# Altium footprint library ICs.PcbLib: 72 footprints (part 5 of 5)
Each footprint in its own frame and in the unit in brackets; x right, y up, seen from the top. Pads: shape width x height; smd on the part's side, far side on the other; paste and mask are expansions set on the pad; w line width, h text height; cw(c..) or ccw(c..) is an arc to the next point about the centre after c.
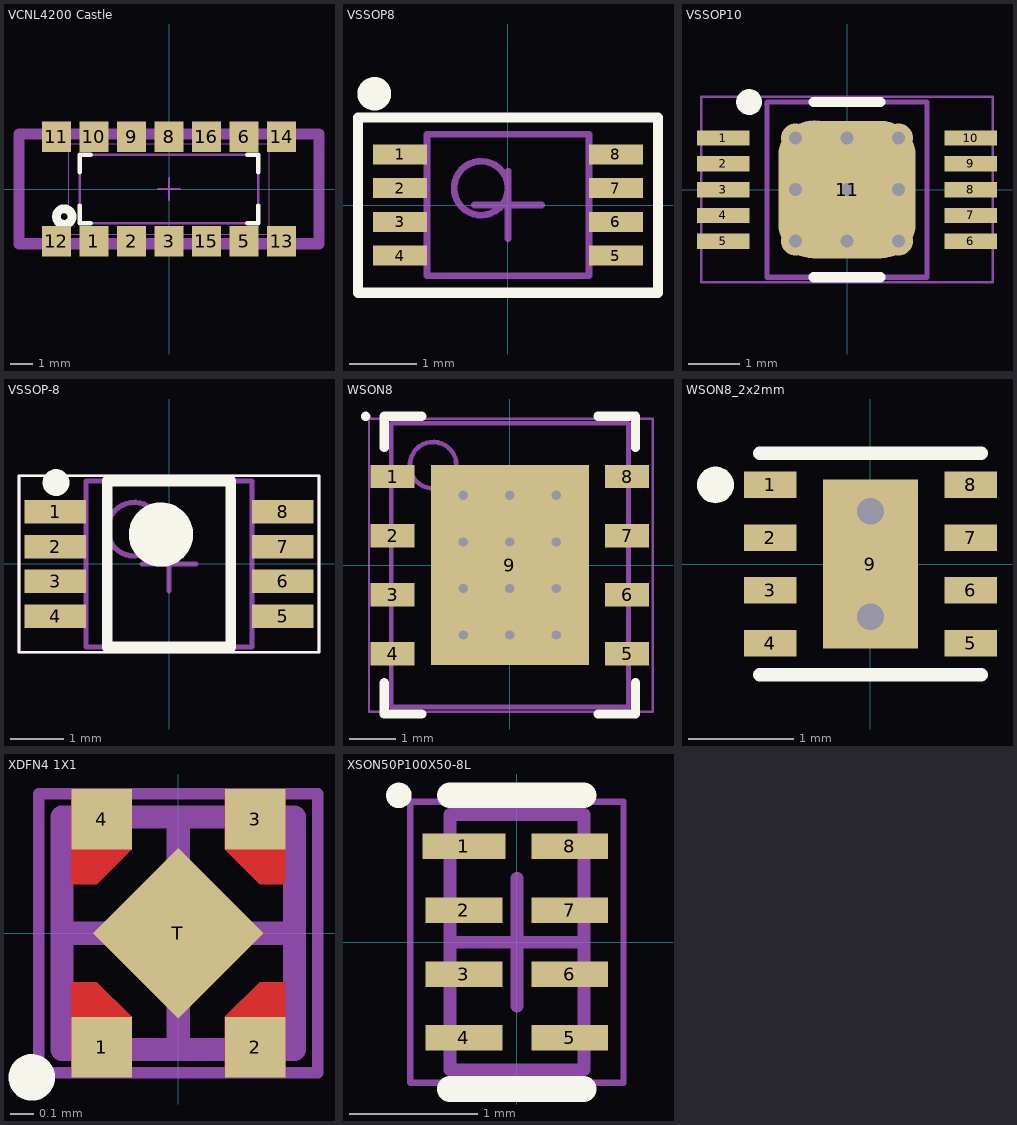
[diagram p4: the footprints below, top view; thin cyan lines are the x and y axes]

## VCNL4200 Castle [mm] "PQFN, 8-Leads, Body 8.00x3.00mm, Pitch 1.70mm/0.50mm, IPC Low Density"
height 1.9
pads (14):
  rect 1.3x1.362 smd: 1(-3.4,-2.368) 2(-1.7,-2.368) 3(0,-2.368) 5(3.4,-2.368) 6(3.4,2.368) 8(0,2.368) 9(-1.7,2.368) 10(-3.4,2.368) 11(-5.1,2.368) 12(-5.1,-2.368) 13(5.1,-2.368) 14(5.1,2.368) 15(1.7,-2.368) 16(1.7,2.368)
Top Overlay:
  circle w0.4: c-4.75,-1.25 r0.354
  lines w0.2: -4.05,-0.75 -4.05,-1.55 -3.55,-1.55 ; -4.05,0.75 -4.05,1.55 -3.55,1.55 ; 3.55,-1.55 4.05,-1.55 4.05,-0.75 ; 3.55,1.55 4.05,1.55 4.05,0.75
Assembly Top:
  lines w0.1: -4.05,-1.55 -4.05,1.55 4.05,1.55 4.05,-1.55 -4.05,-1.55
Courtyard Top:
  lines w0.05: -4.55,-2.05 -4.55,2.05 4.55,2.05 4.55,-2.05 -4.55,-2.05
  lines w0.1: -0.5,0 0.5,0 ; 0,-0.5 0,0.5
Board:
  lines w0.508: -6.8,-2.481 -6.8,2.499 6.8,2.499 6.8,-2.481 -6.8,-2.481
3D body "ProximityCastle.step": height 6.87, standoff -0.01, extent -6.8,-2.484 6.8,2.496

## VSSOP8 [mm] "0.5mm pitch"
height 1
pads (8):
  rect 0.8x0.296 smd: 1(-1.6,0.75) 2(-1.6,0.25) 3(-1.6,-0.25) 4(-1.6,-0.75) 5(1.6,-0.75) 6(1.6,-0.25) 7(1.6,0.25) 8(1.6,0.75)
Top Overlay:
  circle w0.25: c-1.983,1.651 r0.125
  lines w0.152: -2.225,-1.3 -2.225,1.3 2.225,1.3 2.225,-1.3 -2.225,-1.3
Mechanical 13:
  circle w0.1: c-0.4,0.25 r0.4
  lines w0.1: -1.2,-1.05 -1.2,1.05 1.2,1.05 1.2,-1.05 -1.2,-1.05
Mechanical 15:
  lines w0.05: -2.225,-1.3 -2.225,1.3 2.225,1.3 2.225,-1.3 -2.225,-1.3
  lines w0.1: -0.5,0 0.5,0 ; 0,-0.5 0,0.5
3D body "VSSOP8.step": height 1, standoff 0, extent -1.549,-1.05 1.549,1.05

## VSSOP10 [mm] "TSSOP, 10-Leads, Body 3.15x3.00mm, Pitch 0.50mm, Thermal Pad 2.05.2x1.50.2mm, IPC High Density"
height 1.09
pads (11):
  rect 1.02x0.296 smd mask+0.102: 1(-2.4,1) 2(-2.4,0.5) 3(-2.4,0) 4(-2.4,-0.5) 5(-2.4,-1) 6(2.4,-1) 7(2.4,-0.5) 8(2.4,0) 9(2.4,0.5) 10(2.4,1)
  rrect50% 2.667x2.667 smd paste-1.397: 11(0,0)
via 1,1 diameter 0.559 hole 0.254
via 0,1 diameter 0.559 hole 0.254
via -1,1 diameter 0.559 hole 0.254
via -1,0 diameter 0.559 hole 0.254
via -1,-1 diameter 0.559 hole 0.254
via 0,-1 diameter 0.559 hole 0.254
via 1,-1 diameter 0.559 hole 0.254
via 1,0 diameter 0.559 hole 0.254
via 0,0 diameter 0.559 hole 0.254
Top Overlay:
  circle w0.25: c-1.9,1.7 r0.125
  lines w0.2: -0.65,-1.7 0.65,-1.7 ; -0.65,1.7 0.65,1.7
Top Paste:
  region: -0.19,-0.2 -1.21,-0.2 -1.21,-0.57 -1.21,-0.634 -1.185,-0.76 -1.136,-0.878 -1.065,-0.984 -0.974,-1.075 -0.868,-1.146 -0.75,-1.195 -0.624,-1.22 -0.56,-1.22 -0.19,-1.22
  region: 0.2,-0.19 0.2,-1.21 0.57,-1.21 0.634,-1.21 0.76,-1.185 0.878,-1.136 0.984,-1.065 1.075,-0.974 1.146,-0.868 1.195,-0.75 1.22,-0.624 1.22,-0.56 1.22,-0.19
  region: 0.19,0.2 1.21,0.2 1.21,0.57 1.21,0.634 1.185,0.76 1.136,0.878 1.065,0.984 0.974,1.075 0.868,1.146 0.75,1.195 0.624,1.22 0.56,1.22 0.19,1.22
  region: -0.2,0.19 -0.2,1.21 -0.57,1.21 -0.634,1.21 -0.76,1.185 -0.878,1.136 -0.984,1.065 -1.075,0.974 -1.146,0.868 -1.195,0.75 -1.22,0.624 -1.22,0.56 -1.22,0.19
Mechanical 13:
  circle w0.1: c-0.65,0.8 r0.5
  lines w0.1: -1.55,-1.7 1.55,-1.7 1.55,1.7 -1.55,1.7 -1.55,-1.7
Mechanical 15:
  lines w0.05: -2.825,-1.8 2.825,-1.8 2.825,1.8 -2.825,1.8 -2.825,-1.8
  lines w0.1: -0.5,0 0.5,0 ; 0,-0.5 0,0.5
3D body: height 1.09, standoff 0.02, extent -1.55,-1.7 1.55,1.7

## VSSOP-8 [mm] "0.65mm pitch"
height 1.1
pads (8):
  rect 1.15x0.437 smd mask+0.051: 1(-2.125,0.975) 2(-2.125,0.325) 3(-2.125,-0.325) 4(-2.125,-0.975) 5(2.125,-0.975) 6(2.125,-0.325) 7(2.125,0.325) 8(2.125,0.975)
Top Overlay:
  circle w0.6: c-0.15,0.55 r0.3
  circle w0.25: c-2.11,1.52 r0.125
  lines w0.05: -2.8,-1.65 -2.8,1.65 2.8,1.65 2.8,-1.65 -2.8,-1.65
  lines w0.2: -1.15,-1.55 1.15,-1.55 1.15,1.55 -1.15,1.55 -1.15,-1.55
Mechanical 13:
  circle w0.1: c-0.65,0.65 r0.5
  lines w0.1: -1.55,-1.55 1.55,-1.55 1.55,1.55 -1.55,1.55 -1.55,-1.55
Mechanical 15:
  lines w0.05: -2.8,-1.65 2.8,-1.65 2.8,1.65 -2.8,1.65 -2.8,-1.65
  lines w0.1: -0.5,0 0.5,0 ; 0,-0.5 0,0.5
3D body "VSSOP-8.step": height 1.1, standoff 0, extent -2.45,-1.55 2.45,1.55

## WSON8 [mm]
height 0.8
pads (9):
  rect 0.95x0.5 smd mask+0.051: 1(-2.52,1.905) 2(-2.52,0.635) 3(-2.52,-0.635) 4(-2.52,-1.905) 5(2.52,-1.905) 6(2.52,-0.635) 7(2.52,0.635) 8(2.52,1.905)
  rect 3.4x4.3 smd paste-1.595 mask+0.051: 9(0,0)
via 1,-1.5 diameter 0.5 hole 0.2
via 0,-1.5 diameter 0.5 hole 0.2
via -1,-1.5 diameter 0.5 hole 0.2
via 1,-0.5 diameter 0.5 hole 0.2
via 0,-0.5 diameter 0.5 hole 0.2
via -1,-0.5 diameter 0.5 hole 0.2
via 1,0.5 diameter 0.5 hole 0.2
via 0,0.5 diameter 0.5 hole 0.2
via -1,0.5 diameter 0.5 hole 0.2
via 1,1.5 diameter 0.5 hole 0.2
via 0,1.5 diameter 0.5 hole 0.2
via -1,1.5 diameter 0.5 hole 0.2
Top Overlay:
  circle w0.1: c-3.1,3.2 r0.05
  lines w0.2: -2.7,-2.53 -2.7,-3.2 -1.895,-3.2 ; -2.7,2.53 -2.7,3.2 -1.895,3.2 ; 1.895,-3.2 2.7,-3.2 2.7,-2.53 ; 1.895,3.2 2.7,3.2 2.7,2.53
Top Paste:
  rectangle: 0.1,-2.045 1.5,-0.815
  rectangle: 0.1,-0.615 1.5,0.615
  rectangle: 0.1,0.815 1.5,2.045
  rectangle: -1.5,-2.045 -0.1,-0.815
  rectangle: -1.5,-0.615 -0.1,0.615
  rectangle: -1.5,0.815 -0.1,2.045
Mechanical 13:
  circle w0.1: c-1.65,2.15 r0.5
  lines w0.1: -2.55,-3.05 2.55,-3.05 2.55,3.05 -2.55,3.05 -2.55,-3.05
Mechanical 15:
  lines w0.05: -3.03,-3.15 3.07,-3.15 3.07,3.15 -3.03,3.15 -3.03,-3.15
  lines w0.1: -0.5,0 0.5,0 ; 0,-0.5 0,0.5
3D body "WSON8.step": height 0.8, standoff 0, extent -2.551,-3.05 2.551,3.05

## WSON8_2x2mm [mm]
pads (10):
  rect 0.5x0.25 smd paste-0.025 mask+0.051: 1(-0.95,0.75) 2(-0.95,0.25) 3(-0.95,-0.25) 4(-0.95,-0.75) 5(0.95,-0.75) 6(0.95,-0.25) 7(0.95,0.25) 8(0.95,0.75)
  rect 0.9x1.6 smd mask+0.051: 9(0,0)
  round 0.35 on Top Overlay paste-0.9 mask+0.051: ""(-1.47,0.75)
via 0,0.5 diameter 0.559 hole 0.254
via 0,-0.5 diameter 0.559 hole 0.254
Top Overlay:
  lines w0.127: -1.05,-1.05 1.05,-1.05 ; -1.05,1.05 1.05,1.05
3D body: height 0.02, standoff 0, extent -1.05,-1.05 1.05,1.05

## XDFN4 1X1 [mm]
height 0.43
pads (5):
  rect 0.26x0.26 smd mask+0.051: 1(-0.33,-0.49) 2(0.33,-0.49) 3(0.33,0.49) 4(-0.33,0.49)
  rect 0.52x0.52 smd rot 45 mask+0.051: T(0,0)
Top Layer:
  region: -0.46,0.21 -0.35,0.21 -0.2,0.36 -0.2,0.6 -0.46,0.6
  region: 0.46,-0.21 0.35,-0.21 0.2,-0.36 0.2,-0.6 0.46,-0.6
  region: -0.46,-0.21 -0.35,-0.21 -0.2,-0.36 -0.2,-0.6 -0.46,-0.6
  region: 0.46,0.21 0.35,0.21 0.2,0.36 0.2,0.6 0.46,0.6
Top Overlay:
  circle w0.1: c-0.63,-0.62 r0.05
Mechanical 13:
  lines w0.1: -0.5,-0.5 0.5,-0.5 0.5,0.5 -0.5,0.5 -0.5,-0.5
Mechanical 15:
  lines w0.05: -0.6,-0.6 0.6,-0.6 0.6,0.6 -0.6,0.6 -0.6,-0.6
  lines w0.1: -0.5,0 0.5,0 ; 0,-0.5 0,0.5
3D body: height 0.43, standoff 0, extent -0.5,-0.5 0.5,0.5

## XSON50P100X50-8L [mm] "SON, 8-Leads, Body 1.95x1.00mm, Pitch 0.50mm, IPC High Density"
height 0.5
pads (8):
  rect 0.65x0.2 smd: 1(-0.415,0.75)
  rect 0.6x0.2 smd: 2(-0.415,0.25) 3(-0.415,-0.25) 4(-0.415,-0.75) 5(0.415,-0.75) 6(0.415,-0.25) 7(0.415,0.25) 8(0.415,0.75)
Top Overlay:
  circle w0.1: c-0.925,1.15 r0.05
  lines w0.2: -0.525,-1.15 0.525,-1.15 ; -0.525,1.15 0.525,1.15
Assembly Top:
  lines w0.1: -0.525,-1 -0.525,1 0.525,1 0.525,-1 -0.525,-1
Courtyard Top:
  lines w0.05: -0.835,-1.1 -0.835,1.1 0.835,1.1 0.835,-1.1 -0.835,-1.1
  lines w0.1: -0.5,0 0.5,0 ; 0,-0.5 0,0.5
3D body: height 0.5, standoff 0.04, extent -0.525,-1 0.525,1